# Altium footprint library HyTechDevices.PCBLIB: 298 footprints (part 17 of 19)
Each footprint in its own frame and in the unit in brackets; x right, y up, seen from the top. Pads: shape width x height; smd on the part's side, far side on the other; paste and mask are expansions set on the pad; w line width, h text height; cw(c..) or ccw(c..) is an arc to the next point about the centre after c.
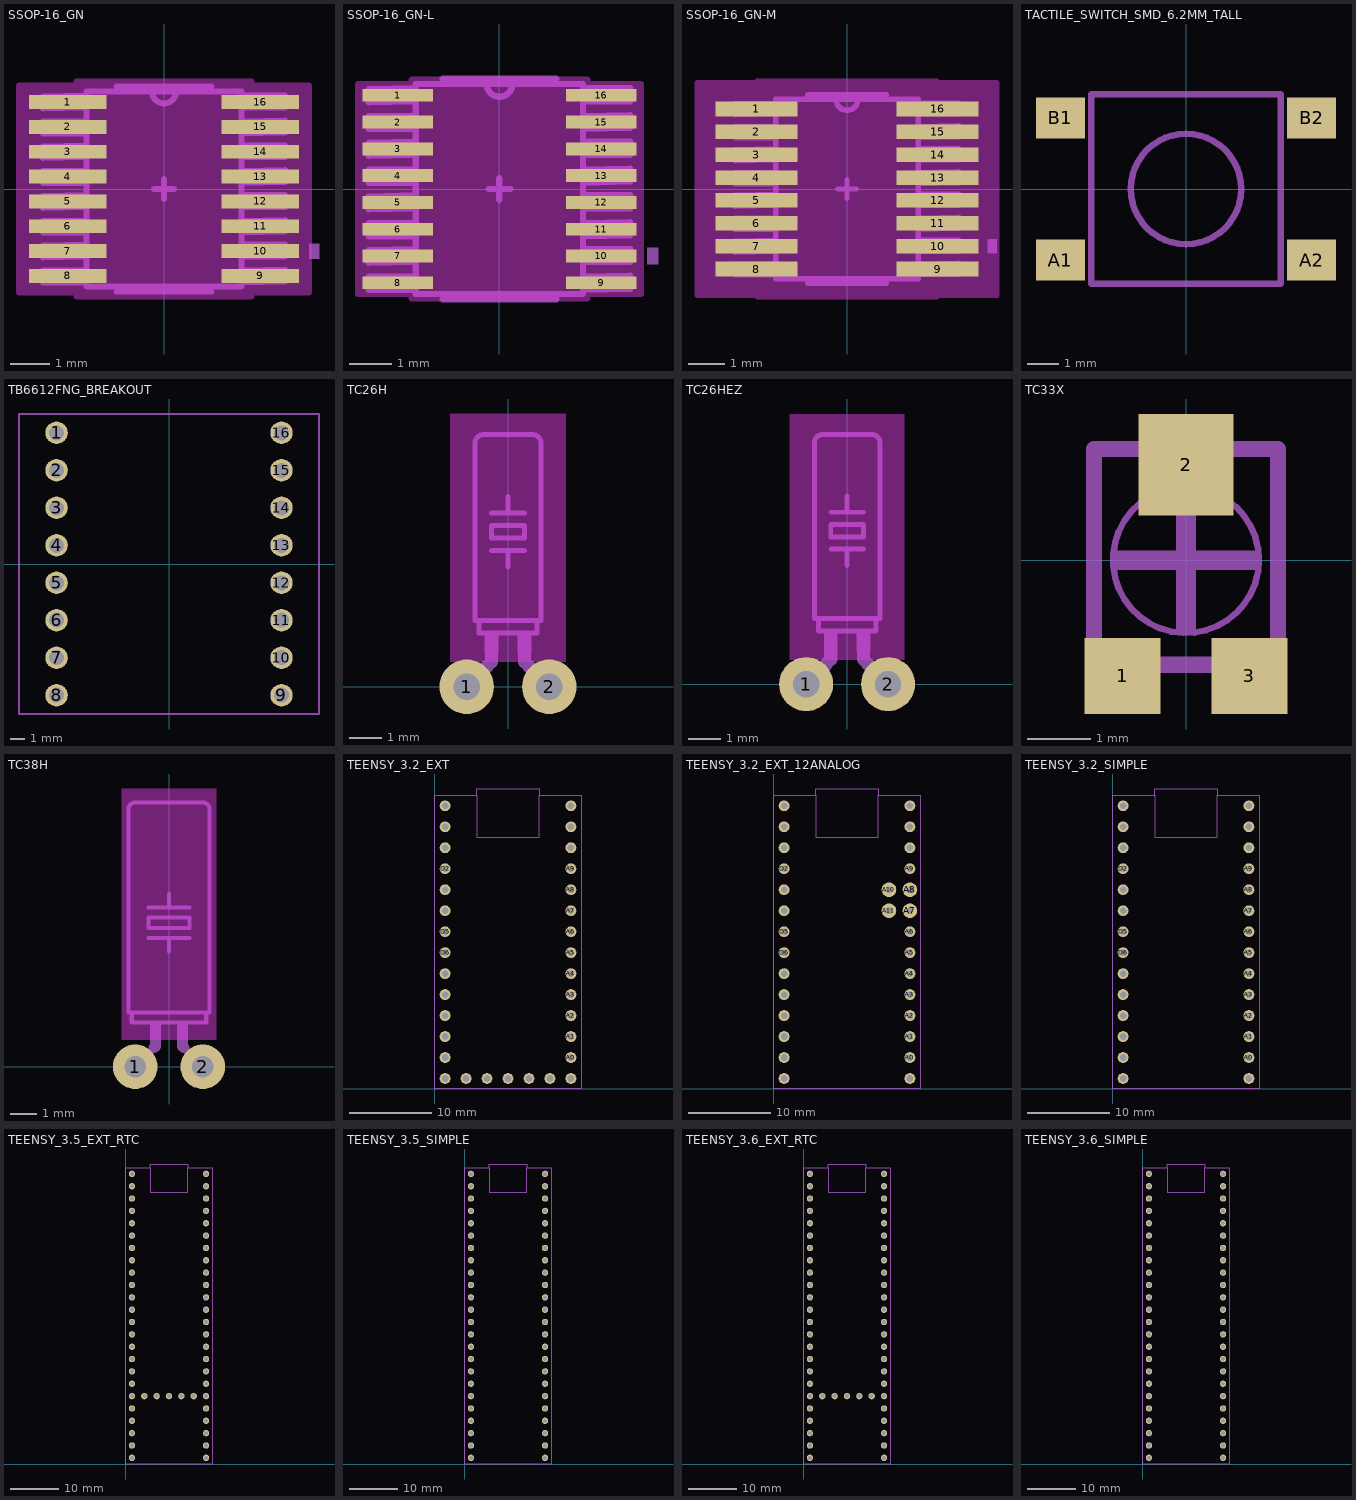
[diagram p16: the footprints below, top view; thin cyan lines are the x and y axes]

## SSOP-16_GN [mil]
pads (16):
  rect 78x14 smd: 1(-97,87.5) 2(-97,62.5) 3(-97,37.5) 4(-97,12.5) 5(-97,-12.5) 6(-97,-37.5) 7(-97,-62.5) 8(-97,-87.5) 9(97,-87.5) 10(97,-62.5) 11(97,-37.5) 12(97,-12.5) 13(97,12.5) 14(97,37.5) 15(97,62.5) 16(97,87.5)
Top Layer keep-out:
  region: -146,-104.5 -146,104.5 -88.5,104.5 -88.5,108 88.5,108 88.5,104.5 146,104.5 146,-104.5 88.5,-104.5 88.5,-108 -88.5,-108 -88.5,-104.5
  lines w6: -146,-104 -146,104 -88,104 -88,108 88,108 88,104 146,104 146,-104 88,-104 88,-108 -88,-108 -88,-104 -146,-104
Mechanical 3:
  lines w6: -12,98 12,98 ; -12,98 -78,98 -78,-98 78,-98 78,98 12,98 ; -12,98 ccw(c0,98) 12,98 ; -122,-94 -122,-82 -78,-82 -78,-94 -122,-94 ; -122,-69 -122,-57 -78,-56 -78,-68 -122,-69 ; -122,-44 -122,-32 -78,-32 -78,-44 -122,-44 ; -122,-19 -122,-7 -78,-6 -78,-18 -122,-19 ; -122,6 -122,18 -78,18 -78,6 -122,6 ; -122,31 -122,43 -78,44 -78,32 -122,31 ; -122,56 -122,68 -79,68 -78,56 -122,56 ; -122,81 -122,93 -79,94 -78,82 -122,81 ; 78,-82 79,-94 122,-93 122,-81 78,-82 ; 78,-68 78,-56 122,-56 122,-68 78,-68 ; 78,-44 78,-32 122,-31 122,-43 78,-44 ; 78,-18 78,-6 122,-6 122,-18 78,-18 ; 78,6 78,18 122,19 122,7 78,6 ; 78,32 78,44 122,44 122,32 78,32 ; 78,56 78,68 122,69 122,57 78,56 ; 78,82 78,94 122,94 122,82 78,82
  text "*" at -86,45 h77.5
Mechanical 7:
  region: 156,-55 156,-70 146,-70 146,-55
  lines w6: -48,-103 48,-103 ; -48,103 48,103
  text "*" at -130,96 h77.5
Top Component Center:
  lines w6: -10,0 10,0 ; 0,-10 0,10

## SSOP-16_GN-L [mil]
pads (16):
  rect 66x12 smd: 1(-95,87.5) 2(-95,62.5) 3(-95,37.5) 4(-95,12.5) 5(-95,-12.5) 6(-95,-37.5) 7(-95,-62.5) 8(-95,-87.5) 9(95,-87.5) 10(95,-62.5) 11(95,-37.5) 12(95,-12.5) 13(95,12.5) 14(95,37.5) 15(95,62.5) 16(95,87.5)
Top Layer keep-out:
  region: -132,-97.5 -132,97.5 -82.5,97.5 -82.5,102 82.5,102 82.5,97.5 132,97.5 132,-97.5 82.5,-97.5 82.5,-102 -82.5,-102 -82.5,-97.5
  lines w6: -132,-98 -132,98 -82,98 -82,102 82,102 82,98 132,98 132,-98 82,-98 82,-102 -82,-102 -82,-98 -132,-98
Mechanical 3:
  lines w6: -12,98 12,98 ; -12,98 -78,98 -78,-98 78,-98 78,98 12,98 ; -12,98 ccw(c0,98) 12,98 ; -122,-94 -122,-82 -78,-82 -78,-94 -122,-94 ; -122,-69 -122,-57 -78,-56 -78,-68 -122,-69 ; -122,-44 -122,-32 -78,-32 -78,-44 -122,-44 ; -122,-19 -122,-7 -78,-6 -78,-18 -122,-19 ; -122,6 -122,18 -78,18 -78,6 -122,6 ; -122,31 -122,43 -78,44 -78,32 -122,31 ; -122,56 -122,68 -79,68 -78,56 -122,56 ; -122,81 -122,93 -79,94 -78,82 -122,81 ; 78,-82 79,-94 122,-93 122,-81 78,-82 ; 78,-68 78,-56 122,-56 122,-68 78,-68 ; 78,-44 78,-32 122,-31 122,-43 78,-44 ; 78,-18 78,-6 122,-6 122,-18 78,-18 ; 78,6 78,18 122,19 122,7 78,6 ; 78,32 78,44 122,44 122,32 78,32 ; 78,56 78,68 122,69 122,57 78,56 ; 78,82 78,94 122,94 122,82 78,82
  text "*" at -86,45 h77.5
Mechanical 7:
  region: 148,-55 148,-70 138,-70 138,-55
  lines w6: -53,-103 53,-103 ; -53,103 53,103
  text "*" at -128,94 h77.5
Top Component Center:
  lines w6: -10,0 10,0 ; 0,-10 0,10

## SSOP-16_GN-M [mil]
pads (16):
  rect 90x16 smd: 1(-99,87.5) 2(-99,62.5) 3(-99,37.5) 4(-99,12.5) 5(-99,-12.5) 6(-99,-37.5) 7(-99,-62.5) 8(-99,-87.5) 9(99,-87.5) 10(99,-62.5) 11(99,-37.5) 12(99,-12.5) 13(99,12.5) 14(99,37.5) 15(99,62.5) 16(99,87.5)
Top Layer keep-out:
  region: -164,-115.5 -164,115.5 -98.5,115.5 -98.5,118 98.5,118 98.5,115.5 164,115.5 164,-115.5 98.5,-115.5 98.5,-118 -98.5,-118 -98.5,-115.5
  lines w6: -164,-116 -164,116 -98,116 -98,118 98,118 98,116 164,116 164,-116 98,-116 98,-118 -98,-118 -98,-116 -164,-116
Mechanical 3:
  lines w6: -12,98 12,98 ; -12,98 -78,98 -78,-98 78,-98 78,98 12,98 ; -12,98 ccw(c0,98) 12,98 ; -122,-94 -122,-82 -78,-82 -78,-94 -122,-94 ; -122,-69 -122,-57 -78,-56 -78,-68 -122,-69 ; -122,-44 -122,-32 -78,-32 -78,-44 -122,-44 ; -122,-19 -122,-7 -78,-6 -78,-18 -122,-19 ; -122,6 -122,18 -78,18 -78,6 -122,6 ; -122,31 -122,43 -78,44 -78,32 -122,31 ; -122,56 -122,68 -79,68 -78,56 -122,56 ; -122,81 -122,93 -79,94 -78,82 -122,81 ; 78,-82 79,-94 122,-93 122,-81 78,-82 ; 78,-68 78,-56 122,-56 122,-68 78,-68 ; 78,-44 78,-32 122,-31 122,-43 78,-44 ; 78,-18 78,-6 122,-6 122,-18 78,-18 ; 78,6 78,18 122,19 122,7 78,6 ; 78,32 78,44 122,44 122,32 78,32 ; 78,56 78,68 122,69 122,57 78,56 ; 78,82 78,94 122,94 122,82 78,82
  text "*" at -86,45 h77.5
Mechanical 7:
  region: 164,-55 164,-70 154,-70 154,-55
  lines w6: -43,-103 43,-103 ; -43,103 43,103
  text "*" at -132,98 h77.5
Top Component Center:
  lines w6: -10,0 10,0 ; 0,-10 0,10

## TACTILE_SWITCH_SMD_6.2MM_TALL [mil]
pads (4):
  rect 61.02x51.18 smd: A1(-156.5,-88.58) A2(156.5,-88.58) B1(-156.5,88.58) B2(156.5,88.58)
Mechanical 7:
  circle w8: c0,0 r68.9
  lines w8: -118.11,-118.11 118.11,-118.11 118.11,118.11 -118.11,118.11 -118.11,-118.11

## TB6612FNG_BREAKOUT [mil]
pads (16):
  round 60 hole 40: 1(-300,350) 2(-300,250) 3(-300,150) 4(-300,50) 5(-300,-50) 6(-300,-150) 7(-300,-250) 8(-300,-350) 9(300,-350) 10(300,-250) 11(300,-150) 12(300,-50) 13(300,50) 14(300,150) 15(300,250) 16(300,350)
Mechanical 7:
  lines w5: -400,-400 -400,400 400,400 400,-400 -400,-400

## TC26H [mil]
pads (2):
  round 66 hole 32: 1(-50,0) 2(50,0)
Top Layer keep-out:
  region: -70,30 -70,330 70,330 70,30
Mechanical 3:
  lines w16: -50,0 -25,25 ; 25,25 50,0
Mechanical 7:
  region: 12,40 12,63 28,63 28,40
  region: -28,40 -28,63 -12,63 -12,40
  lines w6: -20,165 0,165 ; -20,210 0,210 ; 0,145 0,165 ; 0,230 0,210 ; 20,165 0,165 ; 20,210 0,210 ; -35,80 -35,65 35,65 35,80 ; -35,80 -40,80 -40,295 cw(c-30,295) -30,305 30,305 cw(c30,295) 40,295 40,80 35,80 ; -35,80 35,80 ; -20,180 -20,195 20,195 20,180 -20,180
  lines w16: -20,30 -20,50 ; 20,30 20,45

## TC26HEZ [mil]
pads (2):
  round 66 hole 32: 1(-50,0) 2(50,0)
Top Layer keep-out:
  region: -70,30 -70,330 70,330 70,30
Top Solder:
  circle w0: c-50,0 r20
  circle w0: c50,0 r20
Bottom Solder:
  circle w0: c-50,0 r36.4
  circle w0: c50,0 r36.06
Mechanical 3:
  lines w16: -50,0 -25,25 ; 25,25 50,0
Mechanical 7:
  region: 12,40 12,63 28,63 28,40
  region: -28,40 -28,63 -12,63 -12,40
  lines w6: -20,165 0,165 ; -20,210 0,210 ; 0,145 0,165 ; 0,230 0,210 ; 20,165 0,165 ; 20,210 0,210 ; -35,80 -35,65 35,65 35,80 ; -35,80 -40,80 -40,295 cw(c-30,295) -30,305 30,305 cw(c30,295) 40,295 40,80 35,80 ; -35,80 35,80 ; -20,180 -20,195 20,195 20,180 -20,180
  lines w16: -20,30 -20,50 ; 20,30 20,45

## TC33X [mm]
pads (3):
  rect 1.2x1.2 smd: 1(-1,-1.825) 3(1,-1.825)
  rect 1.5x1.6 smd: 2(0,1.5)
Mechanical 3:
  circle w0.102: c0,0 r1.15
  region: -1.15,-0.15 -1.15,0.15 1.15,0.15 1.15,-0.15
  region: -0.15,-1.15 -0.15,1.15 0.15,1.15 0.15,-1.15
  lines w0.254: -1.45,-1.65 -1.45,1.75 1.45,1.75 1.45,-1.65 -1.45,-1.65
Mechanical 7:
  lines w0.254: -1.45,-0.4 -1.45,1.75 -0.85,1.75 ; 0.85,1.75 1.45,1.75 1.45,-0.4

## TC38H [mil]
pads (2):
  round 66 hole 32: 1(-50,0) 2(50,0)
Top Layer keep-out:
  region: -70,40 -70,410 70,410 70,40
Mechanical 3:
  lines w6: -50,0 -25,25 ; 25,25 50,0
Mechanical 7:
  region: 12,40 12,63 28,63 28,40
  region: -28,40 -28,63 -12,63 -12,40
  lines w6: -30,190 0,190 ; -30,235 0,235 ; 0,170 0,190 ; 0,255 0,235 ; 30,190 0,190 ; 30,235 0,235 ; -55,80 -55,65 55,65 55,80 ; -55,80 -60,80 -60,380 cw(c-50,380) -50,390 50,390 cw(c50,380) 60,380 60,80 55,80 ; -55,80 55,80 ; -30,205 -30,220 30,220 30,205 -30,205
  lines w16: -22,28 -20,30 -20,40 ; 20,45 20,30 22,28

## TEENSY_3.2_EXT [mil]
pads (33):
  round 51.5 hole 31.5: 3.3V(650,1150) 3.3V2(250,50) A0(650,150) A1(650,250) A2(650,350) A3(650,450) A4(650,550) A5(650,650) A6(650,750) A7(650,850) A8(650,950) A9(650,1050) AGND(650,1250) D0(RX1)(50,1250) D1(TX1)(50,1150) D2(50,1050) D3(CANTX)(50,950) D4(CANRX)(50,850) D5(50,750) D6(50,650) D7(RX3)(50,550) D8(TX3)(50,450) D9(RX2)(50,350) D10(TX2)(50,250) D11(50,150) D12(50,50) D13(650,50) DAC(550,50) GND(50,1350) GND2(350,50) PGRM(450,50) VBAT(150,50) VIN(650,1350)
Mechanical 7:
  lines w5: 200,1400 200,1430 500,1430 500,1400 ; 200,1400 0,1400 0,0 700,0 700,1400 500,1400 ; 200,1400 200,1200 500,1200 500,1400
  text "3.2" at 350,1312.5 h155

## TEENSY_3.2_EXT_12ANALOG [mil]
pads (30):
  round 51.5 hole 31.5: 3.3V(650,1150) A0(650,150) A1(650,250) A2(650,350) A3(650,450) A4(650,550) A5(650,650) A6(650,750) A9(650,1050) AGND(650,1250) D0(RX1)(50,1250) D1(TX1)(50,1150) D2(50,1050) D3(CANTX)(50,950) D4(CANRX)(50,850) D5(50,750) D6(50,650) D7(RX3)(50,550) D8(TX3)(50,450) D9(RX2)(50,350) D10(TX2)(50,250) D11(50,150) D12(50,50) D13(650,50) GND(50,1350) VIN(650,1350)
  round 70 hole 31.5: A7(650,850) A8(650,950) A10(550,950) A11(550,850)
Mechanical 7:
  lines w5: 200,1400 200,1430 500,1430 500,1400 ; 200,1400 0,1400 0,0 700,0 700,1400 500,1400 ; 200,1400 200,1200 500,1200 500,1400
  text "3.2" at 350,1312.5 h155

## TEENSY_3.2_SIMPLE [mil]
pads (28):
  round 51.5 hole 31.5: 3.3V(650,1150) A0(650,150) A1(650,250) A2(650,350) A3(650,450) A4(650,550) A5(650,650) A6(650,750) A7(650,850) A8(650,950) A9(650,1050) AGND(650,1250) D0(RX1)(50,1250) D1(TX1)(50,1150) D2(50,1050) D3(CANTX)(50,950) D4(CANRX)(50,850) D5(50,750) D6(50,650) D7(RX3)(50,550) D8(TX3)(50,450) D9(RX2)(50,350) D10(TX2)(50,250) D11(50,150) D12(50,50) D13(650,50) GND(50,1350) VIN(650,1350)
Mechanical 7:
  lines w5: 200,1400 200,1430 500,1430 500,1400 ; 200,1400 0,1400 0,0 700,0 700,1400 500,1400 ; 200,1400 200,1200 500,1200 500,1400
  text "3.2" at 350,1312.5 h155

## TEENSY_3.5_EXT_RTC [mil]
pads (53):
  round 51.5 hole 31.5: 3.3V(50,950) 3.3V2(250,550) 3.3V3(650,2150) A0(650,1150) A1(650,1250) A2(650,1350) A3(650,1450) A4(650,1550) A5(650,1650) A6(650,1750) A7(650,1850) A8(650,1950) A9(650,2050) A12(50,150) A13(50,50) A14(650,50) A15(650,150) A16(650,250) A17(650,350) A18(650,450) A19(650,550) A20(650,650) A21(650,750) A22(650,850) AGND(650,2250) D0(RX1)(50,2250) D1(TX1)(50,2150) D2(50,2050) D3(CANTX)(50,1950) D4(CANRX)(50,1850) D5(50,1750) D6(50,1650) D7(RX3)(50,1550) D8(TX3)(50,1450) D9(RX2)(50,1350) D10(TX2)(50,1250) D11(50,1150) D12(50,1050) D13(650,1050) D24(50,850) D25(50,750) D26(50,650) D27(50,550) D28(50,450) D29(50,350) D30(50,250) GND(50,2350) GND2(350,550) GND3(650,950) PRGM(450,550) RST(550,550) VBAT(150,550) VIN(650,2350)
Mechanical 7:
  lines w5: 200,2400 200,2430 500,2430 500,2400 ; 200,2400 0,2400 0,0 700,0 700,2400 500,2400 ; 200,2400 200,2200 500,2200 500,2400
  text "3.5" at 350,2312.5 h155

## TEENSY_3.5_SIMPLE [mil]
pads (48):
  round 51.5 hole 31.5: 3.3V(50,950) 3.3V2(650,2150) A0(650,1150) A1(650,1250) A2(650,1350) A3(650,1450) A4(650,1550) A5(650,1650) A6(650,1750) A7(650,1850) A8(650,1950) A9(650,2050) A12(50,150) A13(50,50) A14(650,50) A15(650,150) A16(650,250) A17(650,350) A18(650,450) A19(650,550) A20(650,650) A21(650,750) A22(650,850) AGND(650,2250) D0(RX1)(50,2250) D1(TX1)(50,2150) D2(50,2050) D3(CANTX)(50,1950) D4(CANRX)(50,1850) D5(50,1750) D6(50,1650) D7(RX3)(50,1550) D8(TX3)(50,1450) D9(RX2)(50,1350) D10(TX2)(50,1250) D11(50,1150) D12(50,1050) D13(650,1050) D24(50,850) D25(50,750) D26(50,650) D27(50,550) D28(50,450) D29(50,350) D30(50,250) GND(50,2350) GND2(650,950) VIN(650,2350)
Mechanical 7:
  lines w5: 200,2400 200,2430 500,2430 500,2400 ; 200,2400 0,2400 0,0 700,0 700,2400 500,2400 ; 200,2400 200,2200 500,2200 500,2400
  text "3.5" at 350,2312.5 h155

## TEENSY_3.6_EXT_RTC [mil]
pads (53):
  round 51.5 hole 31.5: 3.3V(50,950) 3.3V2(250,550) 3.3V3(650,2150) A0(650,1150) A1(650,1250) A2(650,1350) A3(650,1450) A4(650,1550) A5(650,1650) A6(650,1750) A7(650,1850) A8(650,1950) A9(650,2050) A12(50,150) A13(50,50) A14(650,50) A15(650,150) A16(650,250) A17(650,350) A18(650,450) A19(650,550) A20(650,650) A21(650,750) A22(650,850) AGND(650,2250) D0(RX1)(50,2250) D1(TX1)(50,2150) D2(50,2050) D3(CANTX)(50,1950) D4(CANRX)(50,1850) D5(50,1750) D6(50,1650) D7(RX3)(50,1550) D8(TX3)(50,1450) D9(RX2)(50,1350) D10(TX2)(50,1250) D11(50,1150) D12(50,1050) D13(650,1050) D24(50,850) D25(50,750) D26(50,650) D27(50,550) D28(50,450) D29(50,350) D30(50,250) GND(50,2350) GND2(350,550) GND3(650,950) PRGM(450,550) RST(550,550) VBAT(150,550) VIN(650,2350)
Mechanical 7:
  lines w5: 200,2400 200,2430 500,2430 500,2400 ; 200,2400 0,2400 0,0 700,0 700,2400 500,2400 ; 200,2400 200,2200 500,2200 500,2400
  text "3.6" at 350,2312.5 h155

## TEENSY_3.6_SIMPLE [mil]
pads (48):
  round 51.5 hole 31.5: 3.3V(50,950) 3.3V2(650,2150) A0(650,1150) A1(650,1250) A2(650,1350) A3(650,1450) A4(650,1550) A5(650,1650) A6(650,1750) A7(650,1850) A8(650,1950) A9(650,2050) A12(50,150) A13(50,50) A14(650,50) A15(650,150) A16(650,250) A17(650,350) A18(650,450) A19(650,550) A20(650,650) A21(650,750) A22(650,850) AGND(650,2250) D0(RX1)(50,2250) D1(TX1)(50,2150) D2(50,2050) D3(CANTX)(50,1950) D4(CANRX)(50,1850) D5(50,1750) D6(50,1650) D7(RX3)(50,1550) D8(TX3)(50,1450) D9(RX2)(50,1350) D10(TX2)(50,1250) D11(50,1150) D12(50,1050) D13(650,1050) D24(50,850) D25(50,750) D26(50,650) D27(50,550) D28(50,450) D29(50,350) D30(50,250) GND(50,2350) GND2(650,950) VIN(650,2350)
Mechanical 7:
  lines w5: 200,2400 200,2430 500,2430 500,2400 ; 200,2400 0,2400 0,0 700,0 700,2400 500,2400 ; 200,2400 200,2200 500,2200 500,2400
  text "3.6" at 350,2312.5 h155